# Altium integrated library 613010243121.IntLib: 1 symbol
Pins are listed as number, name and electrical type; pins without a type are passive.

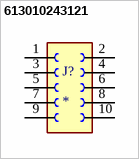
[diagram p0: symbol 613010243121]

## 613010243121
designator J?
10 Position Header Connector Through Hole, Right Angle; MF: Wurth Elektronik; MP: 613010243121; Availability: Good; Check_prices: https://www.snapeda.com/parts/613010243121/W%C3%BCrth%20Elektronik/view-part/5049423/?ref=eda; SnapEDA_Link: https://www.snapeda.com/parts/613010243121/W%C3%BCrth%20Elektronik/view-part/5049423/?ref=snap; Purchase-URL: https://pricing.snapeda.com/search/part/613010243121/?ref=eda; Package: None; Value: *; Price: None
footprint 613010243121
pins: 1, 2 10, 3 2, 4 9, 5 3, 6 8, 7 4, 8 7, 9 5, 10 6